# Altium schematic symbol library sym-0016.SchLib: 1 symbol
Pins are listed as number, name and electrical type; pins without a type are passive.

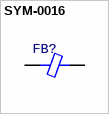
[diagram p0: symbol SYM-0016]

## SYM-0016
designator FB?
Ferrite Bead
pins: 1, 2